# Altium schematic symbol library PCB_schm_lib.SchLib: 6 symbols
Pins are listed as number, name and electrical type; pins without a type are passive.

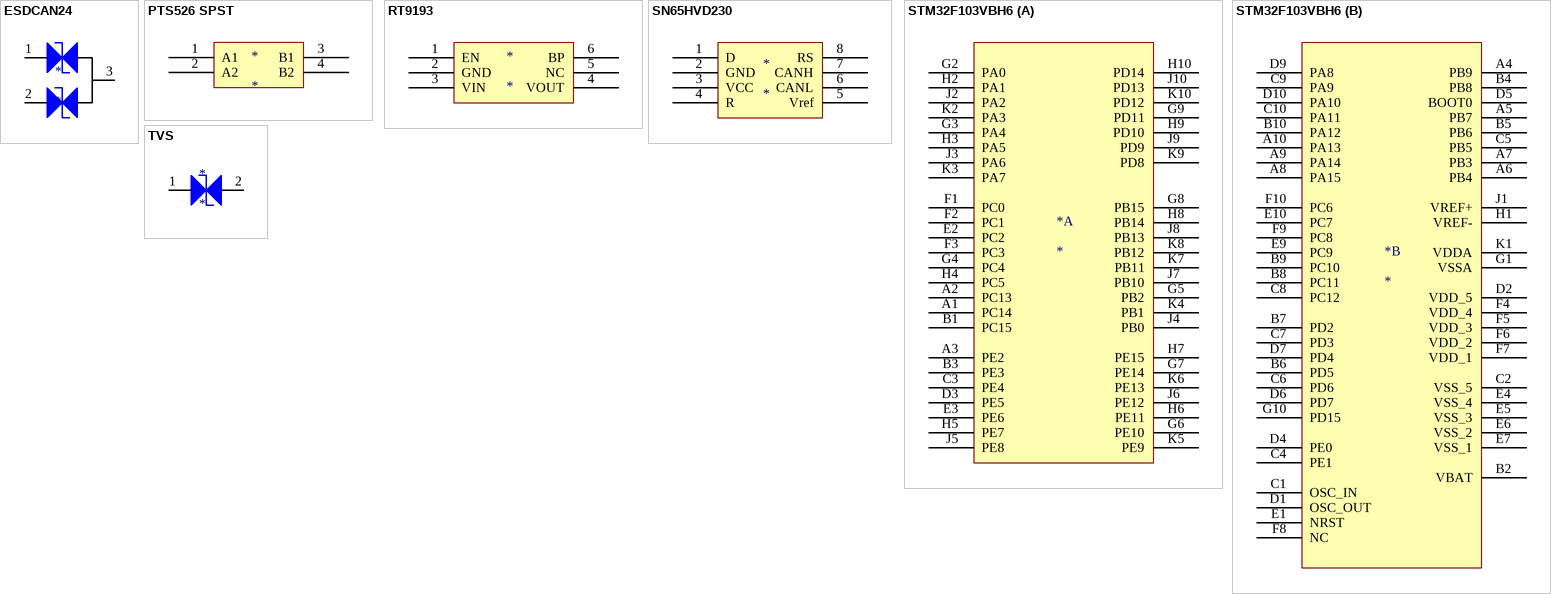
[diagram p0: symbols ESDCAN24 to TVS]

## ESDCAN24
designator *
pins: 1 K23, 2 K23, 3 K23

## PTS526 SPST
designator *
pins: 1 A1, 2 A2, 3 B1, 4 B2

## RT9193
designator *
pins: 1 EN, 2 GND, 3 VIN, 4 VOUT, 5 NC, 6 BP

## SN65HVD230
designator *
pins: 1 D, 2 GND, 3 VCC, 4 R, 5 Vref, 6 CANL, 7 CANH, 8 RS

## STM32F103VBH6
designator *
part A pins: A1 PC14, A2 PC13, A3 PE2, B1 PC15, B3 PE3, C3 PE4, D3 PE5, E2 PC2, E3 PE6, F1 PC0, F2 PC1, F3 PC3, G2 PA0, G3 PA4, G4 PC4, G5 PB2, G6 PE10, G7 PE14, G8 PB15, G9 PD11, H2 PA1, H3 PA5, H4 PC5, H5 PE7, H6 PE11, H7 PE15, H8 PB14, H9 PD10, H10 PD14, J2 PA2, J3 PA6, J4 PB0, J5 PE8, J6 PE12, J7 PB10, J8 PB13, J9 PD9, J10 PD13, K2 PA3, K3 PA7, K4 PB1, K5 PE9, K6 PE13, K7 PB11, K8 PB12, K9 PD8, K10 PD12
part B pins: A4 PB9, A5 PB7, A6 PB4, A7 PB3, A8 PA15, A9 PA14, A10 PA13, B2 VBAT, B4 PB8, B5 PB6, B6 PD5, B7 PD2, B8 PC11, B9 PC10, B10 PA12, C1 OSC_IN, C2 VSS_5, C4 PE1, C5 PB5, C6 PD6, C7 PD3, C8 PC12, C9 PA9, C10 PA11, D1 OSC_OUT, D2 VDD_5, D4 PE0, D5 BOOT0, D6 PD7, D7 PD4, D9 PA8, D10 PA10, E1 NRST, E4 VSS_4, E5 VSS_3, E6 VSS_2, E7 VSS_1, E9 PC9, E10 PC7, F4 VDD_4, F5 VDD_3, F6 VDD_2, F7 VDD_1, F8 NC, F9 PC8, F10 PC6, G1 VSSA, G10 PD15, H1 VREF-, J1 VREF+, K1 VDDA

## TVS
designator *
pins: 1 K23, 2 K24